# EAGLE library part 5103308-3 (library 510308)
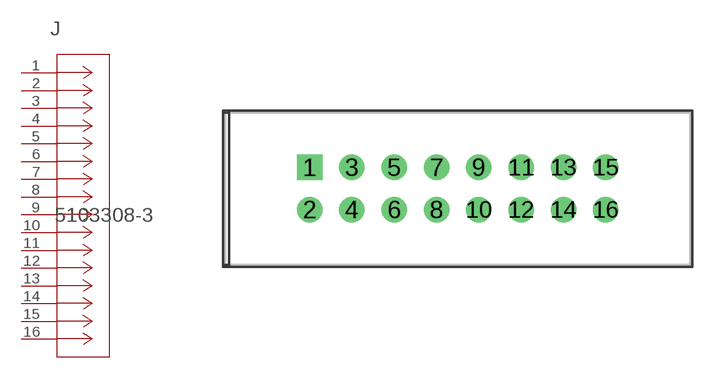
[diagram p0: symbol with the pads of CON16_2X8_S4; footprint CON16_2X8_S4]

Designator prefix J

## 5103308-3 (CATEGORY: Connectors; COLOR: Black; CONNECTORTYPE: Header, Shrouded; CONTACTFINISH: Gold or Gold-Palladium; CONTACTFINISHTHICKNESS: 15µin (0.38µm); CONTACTMATINGLENGTH: 0.240" (6.10mm); CONTACTTYPE: Male Pin; COPYRIGHT: Copyright (C) 2015 Accelerated Designs. All rights reserved; DATASHEET: http://documents.tycoelectronics.com/commerce/DocumentDelivery/DDEController?Action=srchrtrv&ampDocNm=5103308&ampDocType=CD&ampDocLang=EN; DIGIKEYPARTNUMBER: A33163-ND; FASTENINGTYPE: -; FEATURES: -; MANUFACTURER_PART_NUMBER: 5103308-3; MOUNTINGTYPE: Through Hole; NUMBEROFCONTACTSLOADED: All; NUMBEROFPOSITIONS: 16; NUMBEROFPOSITIONSLOADED: All; NUMBEROFROWS: 2; PACKAGING: Tube; PITCH: 0.100" (2.54mm); QUANTITY_AVAILABLE: 16245; ROWSPACING: 0.100" (2.54mm); SERIES: AMP-Latch™; TERMINATION: Solder; VENDOR: Tyco Electronics)  [CON16_2X8_S4]
1  1  pas
2  2  pas
3  3  pas
4  4  pas
5  5  pas
6  6  pas
7  7  pas
8  8  pas
9  9  pas
10  10  pas
11  11  pas
12  12  pas
13  13  pas
14  14  pas
15  15  pas
16  16  pas

## Footprint CON16_2X8_S4 (pad centres in mm)
drill 0.965 pad 1.524 square: 1 -17.78,2.54
drill 0.965 pad 1.524: 2 -17.78,0; 3 -15.24,2.54; 4 -15.24,0; 5 -12.7,2.54; 6 -12.7,0; 7 -10.16,2.54; 8 -10.16,0; 9 -7.62,2.54; 10 -7.62,0; 11 -5.08,2.54; 12 -5.08,0; 13 -2.54,2.54; 14 -2.54,0; 15 0,2.54; 16 0,0